# Altium schematic symbol library MIC5225 Low Dropout Regulator.schlib: 1 symbol
Pins are listed as number, name and electrical type; pins without a type are passive.

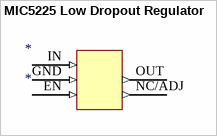
[diagram p0: symbol MIC5225 Low Dropout Regulator]

## MIC5225 Low Dropout Regulator
designator *
pins: EN (in), GND (in), IN (in), NC/ADJ (out), OUT (out)